# EAGLE library part SNESCART_CONN2 (library snes_div)
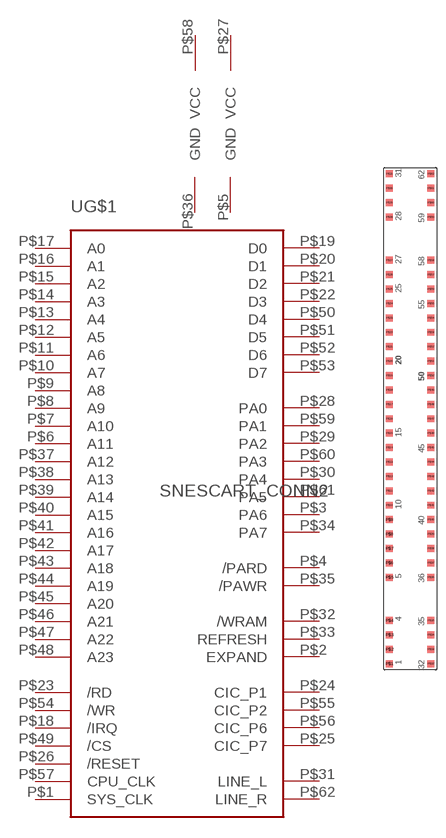
[diagram p12: symbol with the pads of SNESCART_CONN2; footprint SNESCART_CONN2]

Designator prefix -; gates G$1=SNESCART_CONN G$2=PWR G$3=PWR

## SNESCART_CONN2  [SNESCART_CONN2]
P$1  G$1:SYS_CLK
P$2  G$1:EXPAND
P$3  G$1:PA6
P$4  G$1:/PARD
P$5  G$2:GND
P$6  G$1:A11
P$7  G$1:A10
P$8  G$1:A9
P$9  G$1:A8
P$10  G$1:A7
P$11  G$1:A6
P$12  G$1:A5
P$13  G$1:A4
P$14  G$1:A3
P$15  G$1:A2
P$16  G$1:A1
P$17  G$1:A0
P$18  G$1:/IRQ
P$19  G$1:D0
P$20  G$1:D1
P$21  G$1:D2
P$22  G$1:D3
P$23  G$1:/RD
P$24  G$1:CIC_P1
P$25  G$1:CIC_P7
P$26  G$1:/RESET
P$27  G$2:VCC
P$28  G$1:PA0
P$29  G$1:PA2
P$30  G$1:PA4
P$31  G$1:LINE_L
P$32  G$1:/WRAM
P$33  G$1:REFRESH
P$34  G$1:PA7
P$35  G$1:/PAWR
P$36  G$3:GND
P$37  G$1:A12
P$38  G$1:A13
P$39  G$1:A14
P$40  G$1:A15
P$41  G$1:A16
P$42  G$1:A17
P$43  G$1:A18
P$44  G$1:A19
P$45  G$1:A20
P$46  G$1:A21
P$47  G$1:A22
P$48  G$1:A23
P$49  G$1:/CS
P$50  G$1:D4
P$51  G$1:D5
P$52  G$1:D6
P$53  G$1:D7
P$54  G$1:/WR
P$55  G$1:CIC_P2
P$56  G$1:CIC_P6
P$57  G$1:CPU_CLK
P$58  G$3:VCC
P$59  G$1:PA1
P$60  G$1:PA3
P$61  G$1:PA5
P$62  G$1:LINE_R

## Footprint SNESCART_CONN2 (pad centres in mm)
smd 1.2 x 1.2: P$1 -3.6,-42.5; P$2 -3.6,-40; P$3 -3.6,-37.5; P$4 -3.6,-35; P$5 -3.6,-27.5; P$6 -3.6,-25; P$7 -3.6,-22.5; P$8 -3.6,-20; P$9 -3.6,-17.5; P$10 -3.6,-15; P$11 -3.6,-12.5; P$12 -3.6,-10; P$13 -3.6,-7.5; P$14 -3.6,-5; P$15 -3.6,-2.5; P$16 -3.6,0; P$17 -3.6,2.5; P$18 -3.6,5; P$19 -3.6,7.5; P$20 -3.6,10; P$21 -3.6,12.5; P$22 -3.6,15; P$23 -3.6,17.5; P$24 -3.6,20; P$25 -3.6,22.5; P$26 -3.6,25; P$27 -3.6,27.5; P$28 -3.6,35; P$29 -3.6,37.5; P$30 -3.6,40; P$31 -3.6,42.5; P$32 3.6,-42.5; P$33 3.6,-40; P$34 3.6,-37.5; P$35 3.6,-35; P$36 3.6,-27.5; P$37 3.6,-25; P$38 3.6,-22.5; P$39 3.6,-20; P$40 3.6,-17.5; P$41 3.6,-15; P$42 3.6,-12.5; P$43 3.6,-10; P$44 3.6,-7.5; P$45 3.6,-5; P$46 3.6,-2.5; P$47 3.6,0; P$48 3.6,2.5; P$49 3.6,5; P$50 3.6,7.5; P$51 3.6,10; P$52 3.6,12.5; P$53 3.6,15; P$54 3.6,17.5; P$55 3.6,20; P$56 3.6,22.5; P$57 3.6,25; P$58 3.6,27.5; P$59 3.6,35; P$60 3.6,37.5; P$61 3.6,40; P$62 3.6,42.5